# EAGLE library part AW9523B (library Parts)
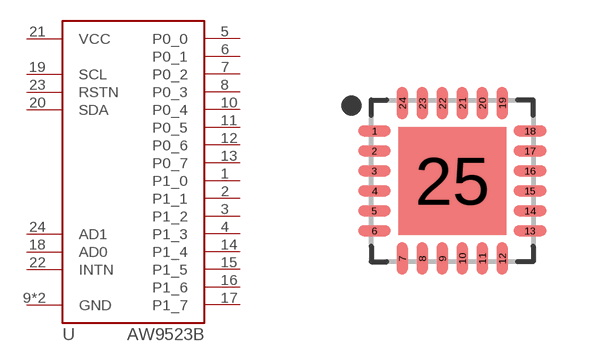
[diagram p0: symbol with the pads of QFN50P400X400X80-25T270N; footprint QFN50P400X400X80-25T270N]

Designator prefix U

## AW9523B (LCSC: C148077)  [QFN50P400X400X80-25T270N]
1  P1_0
2  P1_1
3  P1_2
4  P1_3
5  P0_0
6  P0_1
7  P0_2
8  P0_3
9  GND  sup
10  P0_4
11  P0_5
12  P0_6
13  P0_7
14  P1_4
15  P1_5
16  P1_6
17  P1_7
18  AD0  in
19  SCL  in
20  SDA
21  VCC  sup
22  INTN  out
23  RSTN  in
24  AD1  in
25  GND  sup

## Footprint QFN50P400X400X80-25T270N (pad centres in mm)
24-QFN, 0.50 mm pitch, 4.00 X 4.00 X 0.80 mm body, 2.70 X 2.70 mm thermal pad 24-pin QFN package with 0.50 mm pitch with body size 4.00 X 4.00 X 0.80 mm and thermal pad size 2.70 X 2.70 mm
smd 0.81 x 0.27: 1 -1.945,1.25; 2 -1.945,0.75; 3 -1.945,0.25; 4 -1.945,-0.25; 5 -1.945,-0.75; 6 -1.945,-1.25; 13 1.945,-1.25; 14 1.945,-0.75; 15 1.945,-0.25; 16 1.945,0.25; 17 1.945,0.75; 18 1.945,1.25
smd 0.27 x 0.81: 7 -1.25,-1.945; 8 -0.75,-1.945; 9 -0.25,-1.945; 10 0.25,-1.945; 11 0.75,-1.945; 12 1.25,-1.945; 19 1.25,1.945; 20 0.75,1.945; 21 0.25,1.945; 22 -0.25,1.945; 23 -0.75,1.945; 24 -1.25,1.945
smd 2.7 x 2.7: 25 0,0